# Altium schematic symbol library C1210.SchLib: 1 symbol
Pins are listed as number, name and electrical type; pins without a type are passive.

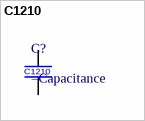
[diagram p0: symbol C1210]

## C1210
designator C?
pins: 1, 2